# EAGLE library part STKPWRBOT (library con-samtec-ips1)
Power Connector, Bottom side of Board Modular Demo Stacking Connector
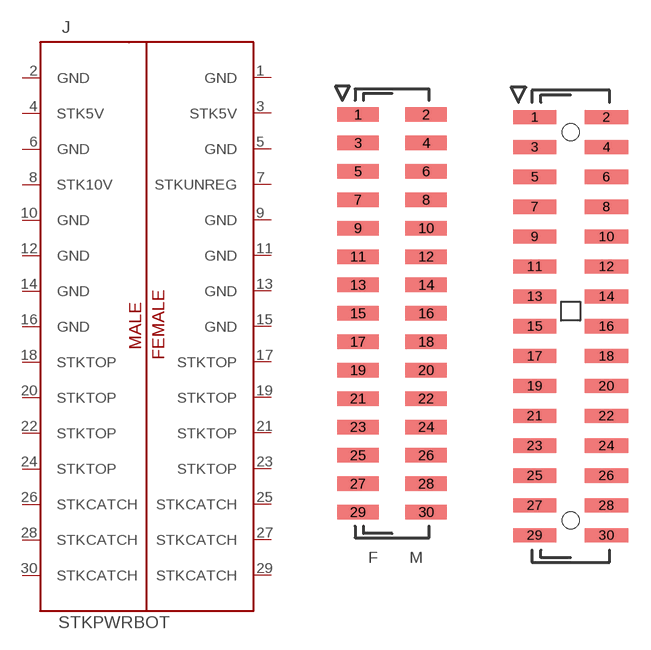
[diagram p17: symbol with the pads of LS2-115-02-F-D; footprints LS2-115-02-F-D, LS2-115-02-CUSTOM]

Designator prefix J

## STKPWRBOT  [LS2-115-02-F-D]
1  GND  pas
2  GND  pas
3  STK5V  pas
4  STK5V  pas
5  GND  pas
6  GND  pas
7  STKUNREG  pas
8  STK10V  pas
9  GND  pas
10  GND  pas
11  GND  pas
12  GND  pas
13  GND  pas
14  GND  pas
15  GND  pas
16  GND  pas
17  STKTOP  pas
18  STKTOP  pas
19  STKTOP  pas
20  STKTOP  pas
21  STKTOP  pas
22  STKTOP  pas
23  STKTOP  pas
24  STKTOP  pas
25  STKCATCH  pas
26  STKCATCH  pas
27  STKCATCH  pas
28  STKCATCH  pas
29  STKCATCH  pas
30  STKCATCH  pas

## STKPWRBOTCUSTOM  [LS2-115-02-CUSTOM]
1  GND  pas
2  GND  pas
3  STK5V  pas
4  STK5V  pas
5  GND  pas
6  GND  pas
7  STKUNREG  pas
8  STK10V  pas
9  GND  pas
10  GND  pas
11  GND  pas
12  GND  pas
13  GND  pas
14  GND  pas
15  GND  pas
16  GND  pas
17  STKTOP  pas
18  STKTOP  pas
19  STKTOP  pas
20  STKTOP  pas
21  STKTOP  pas
22  STKTOP  pas
23  STKTOP  pas
24  STKTOP  pas
25  STKCATCH  pas
26  STKCATCH  pas
27  STKCATCH  pas
28  STKCATCH  pas
29  STKCATCH  pas
30  STKCATCH  pas

## STKPWRBOTLS2-115-02-CUST_NOSOLD  [LS2-115-02-CUSTOM_NOSOLD]
Pads as for LS2-115-02-CUSTOM

## STKPWRBOTNOPASTE  [LS2-115-02-CUSTOMNOPASTE]
1  GND  pas
2  GND  pas
3  STK5V  pas
4  STK5V  pas
5  GND  pas
6  GND  pas
7  STKUNREG  pas
8  STK10V  pas
9  GND  pas
10  GND  pas
11  GND  pas
12  GND  pas
13  GND  pas
14  GND  pas
15  GND  pas
16  GND  pas
17  STKTOP  pas
18  STKTOP  pas
19  STKTOP  pas
20  STKTOP  pas
21  STKTOP  pas
22  STKTOP  pas
23  STKTOP  pas
24  STKTOP  pas
25  STKCATCH  pas
26  STKCATCH  pas
27  STKCATCH  pas
28  STKCATCH  pas
29  STKCATCH  pas
30  STKCATCH  pas

## Footprint LS2-115-02-F-D (pad centres in mm)
Samtech LS2 2mm Hemaphoraditic header 2mm pitch, 2 x 15 = 30 pin
smd 2.92 x 1.02: 1 -2.4,14; 2 2.4,14; 3 -2.4,12; 4 2.4,12; 5 -2.4,10; 6 2.4,10; 7 -2.4,8; 8 2.4,8; 9 -2.4,6; 10 2.4,6; 11 -2.4,4; 12 2.4,4; 13 -2.4,2; 14 2.4,2; 15 -2.4,0; 16 2.4,0; 17 -2.4,-2; 18 2.4,-2; 19 -2.4,-4; 20 2.4,-4; 21 -2.4,-6; 22 2.4,-6; 23 -2.4,-8; 24 2.4,-8; 25 -2.4,-10; 26 2.4,-10; 27 -2.4,-12; 28 2.4,-12; 29 -2.4,-14; 30 2.4,-14

## Footprint LS2-115-02-CUSTOM (pad centres in mm)
smd 2.9 x 0.95: 1 -2.4,14; 2 2.4,14; 3 -2.4,12; 4 2.4,12; 5 -2.4,10; 6 2.4,10; 7 -2.4,8; 8 2.4,8; 9 -2.4,6; 10 2.4,6; 11 -2.4,4; 12 2.4,4; 13 -2.4,2; 14 2.4,2; 15 -2.4,0; 16 2.4,0; 17 -2.4,-2; 18 2.4,-2; 19 -2.4,-4; 20 2.4,-4; 21 -2.4,-6; 22 2.4,-6; 23 -2.4,-8; 24 2.4,-8; 25 -2.4,-10; 26 2.4,-10; 27 -2.4,-12; 28 2.4,-12; 29 -2.4,-14; 30 2.4,-14
hole 1.143 at 0,13.005
hole 1.143 at 0,-13.005

## Footprint LS2-115-02-CUSTOM_NOSOLD (pad centres in mm)
smd 2.9 x 0.95: 1 -2.4,14; 2 2.4,14; 3 -2.4,12; 4 2.4,12; 5 -2.4,10; 6 2.4,10; 7 -2.4,8; 8 2.4,8; 9 -2.4,6; 10 2.4,6; 11 -2.4,4; 12 2.4,4; 13 -2.4,2; 14 2.4,2; 15 -2.4,0; 16 2.4,0; 17 -2.4,-2; 18 2.4,-2; 19 -2.4,-4; 20 2.4,-4; 21 -2.4,-6; 22 2.4,-6; 23 -2.4,-8; 24 2.4,-8; 25 -2.4,-10; 26 2.4,-10; 27 -2.4,-12; 28 2.4,-12; 29 -2.4,-14; 30 2.4,-14
hole 1.143 at 0,13.005
hole 1.143 at 0,-13.005

## Footprint LS2-115-02-CUSTOMNOPASTE (pad centres in mm)
smd 2.9 x 0.95: 1 -2.4,14; 2 2.4,14; 3 -2.4,12; 4 2.4,12; 5 -2.4,10; 6 2.4,10; 7 -2.4,8; 8 2.4,8; 9 -2.4,6; 10 2.4,6; 11 -2.4,4; 12 2.4,4; 13 -2.4,2; 14 2.4,2; 15 -2.4,0; 16 2.4,0; 17 -2.4,-2; 18 2.4,-2; 19 -2.4,-4; 20 2.4,-4; 21 -2.4,-6; 22 2.4,-6; 23 -2.4,-8; 24 2.4,-8; 25 -2.4,-10; 26 2.4,-10; 27 -2.4,-12; 28 2.4,-12; 29 -2.4,-14; 30 2.4,-14
hole 1.143 at 0,13.005
hole 1.143 at 0,-13.005